# Altium footprint library WSON-10(4.0X4.0).PcbLib: 1 footprints
Each footprint in its own frame and in the unit in brackets; x right, y up, seen from the top. Pads: shape width x height; smd on the part's side, far side on the other; paste and mask are expansions set on the pad; w line width, h text height; cw(c..) or ccw(c..) is an arc to the next point about the centre after c.
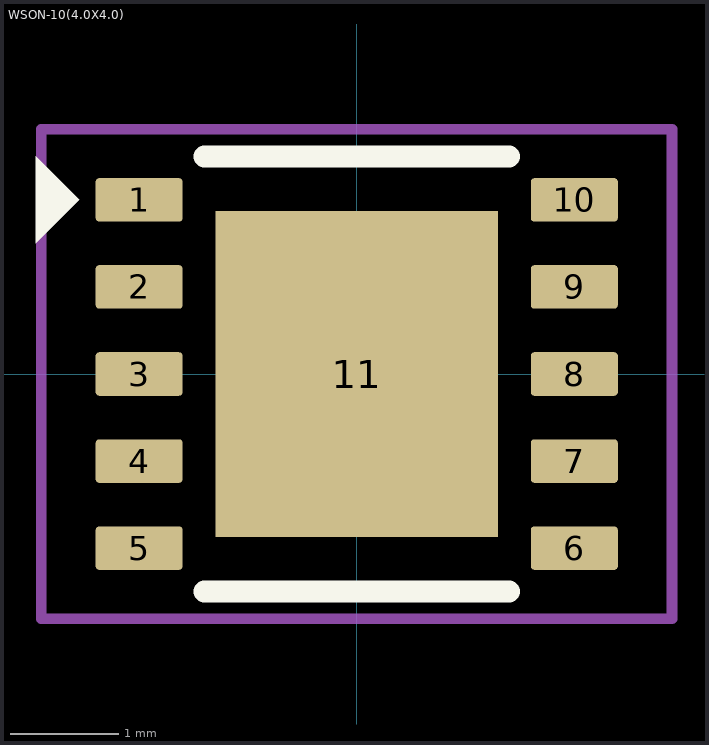
[diagram p0: the footprint, top view; thin cyan lines are the x and y axes]

## WSON-10(4.0X4.0) [mm]
pads (11):
  rrect16% 0.8x0.4 smd: 1(-2,1.6) 2(-2,0.8) 3(-2,0) 4(-2,-0.8) 5(-2,-1.6) 6(2,-1.6) 7(2,-0.8) 8(2,0) 9(2,0.8) 10(2,1.6)
  rect 2.6x3 smd paste-3: 11(0,0)
Top Overlay:
  region: -2.95,1.2 -2.95,2 -2.55,1.6
  lines w0.2: -1.4,-2 1.4,-2 ; -1.4,2 1.4,2
Top Courtyard:
  lines w0.1: -2.9,-2.25 -2.9,2.25 2.9,2.25 2.9,-2.25 -2.9,-2.25
3D body "TPS54561DPRR.STEP": height 0.8, standoff 0, extent -2,-2 2,2